# Altium schematic symbol library ic-power-supply.SchLib: 32 symbols
Pins are listed as number, name and electrical type; pins without a type are passive.

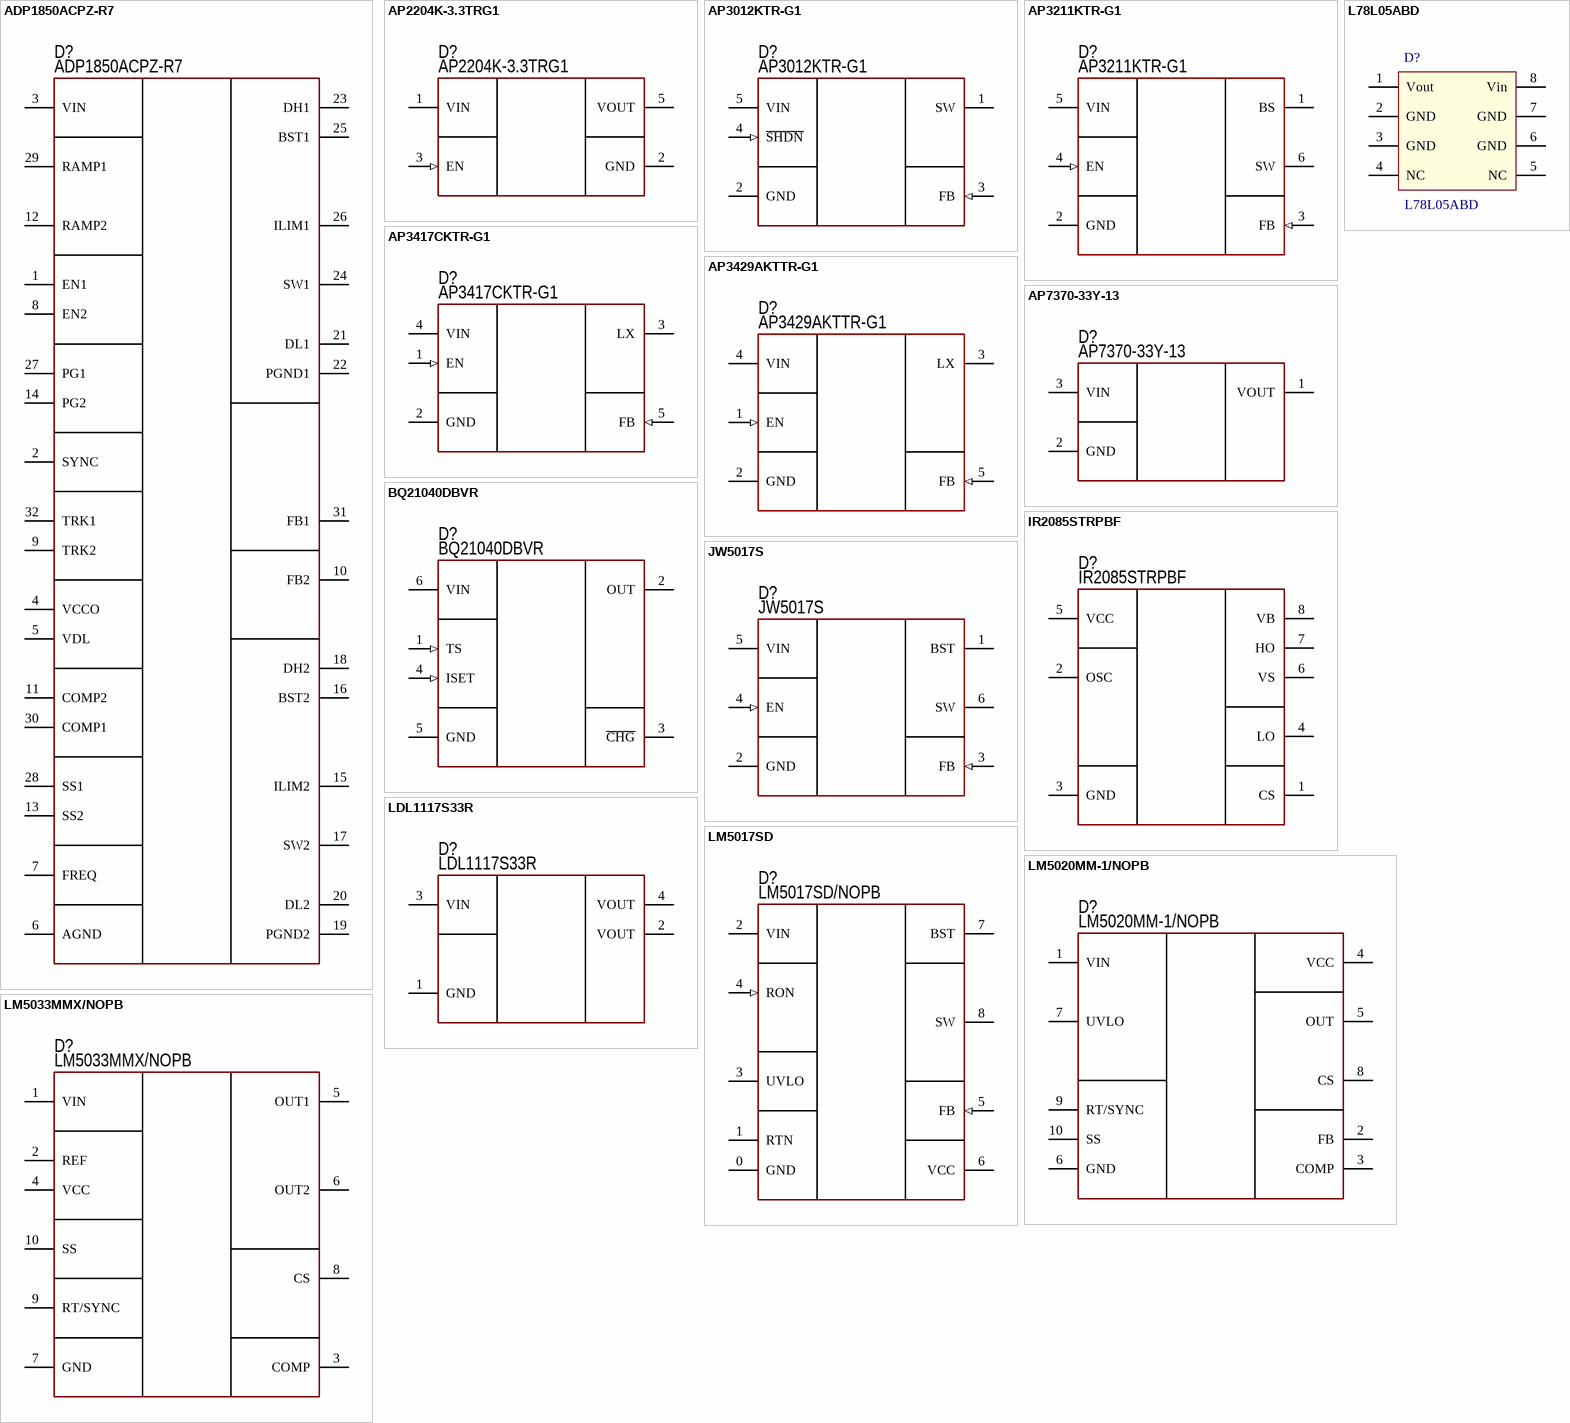
[diagram p0: symbols ADP1850ACPZ-R7 to LM5033MMX/NOPB]

## ADP1850ACPZ-R7
designator D?  PartNumber: ADP1850ACPZ-R7
2 phase buck; Manufacturer: Analog Devices; ValueManufacturerPartNumber: DC/DC buck converter, input 2.75...20V, 200...1500 kHz, output 0.6...17V, 2 phase, -40...+85°C, 32-VFQFN (5x5); VoltageInput: input 2.75...20V; Frequency: 200...1500 kHz; CurrentOutput: 2 phase; VoltageOutput: output 0.6...17V; HelpURL: https://www.digikey.com/product-detail/en/analog-devices-inc/ADP1850ACPZ-R7/ADP1850ACPZ-R7CT-ND/2609853; Package: 32-VFQFN (5x5); ComponentType: DC/DC buck converter; Temperature: -40...+85°C
footprint 32-QFN (5x5 mm, pitch 0.5 mm, power pad)
pins: 1 EN1, 2 SYNC, 3 VIN, 4 VCCO, 5 VDL, 6 AGND, 7 FREQ, 8 EN2, 9 TRK2, 10 FB2, 11 COMP2, 12 RAMP2, 13 SS2, 14 PG2, 15 ILIM2, 16 BST2, 17 SW2, 18 DH2, 19 PGND2, 20 DL2, 21 DL1, 22 PGND1, 23 DH1, 24 SW1, 25 BST1, 26 ILIM1, 27 PG1, 28 SS1, 29 RAMP1, 30 COMP1, 31 FB1, 32 TRK1

## AP2204K-3.3TRG1
designator D?  PartNumber: AP2204K-3.3TRG1
Linear voltage regulator; Manufacturer: Diodes Incorporated; ValueManufacturerPartNumber: Linear voltage regulator, input 4...24V, 0.5V, output 3.3V, 0.15A, -40...+85°C, SOT23-6; VoltageInput: input 4...24V; MaxDropout: 0.5V; CurrentOutput: 0.15A; VoltageOutput: output 3.3V; HelpURL: https://www.digikey.com/product-detail/en/diodes-incorporated/AP2204K-3.3TRG1/AP2204K-3.3TRG1DICT-ND/4505288; Package: SOT23-6; ComponentType: Linear voltage regulator; Temperature: -40...+85°C
footprint SOT23-5 (pitch 0.95 mm)
pins: 1 VIN, 2 GND, 3 EN (in), 5 VOUT

## AP3012KTR-G1
designator D?  PartNumber: AP3012KTR-G1
Boost converter; Manufacturer: Diodes Incorporated; ValueManufacturerPartNumber: DC/DC boost converter, input 2.6...16V, 1.5MHz, output 3...29V, 0.5A, -40...+85°C, SOT23-5; VoltageInput: input 2.6...16V; Frequency: 1.5MHz; CurrentOutput: 0.5A; VoltageOutput: output 3...29V; HelpURL: https://www.digikey.com/product-detail/en/diodes-incorporated/AP3012KTR-G1/AP3012KTR-G1DICT-ND/4505297; Package: SOT23-5; ComponentType: DC/DC boost converter; Temperature: -40...+85°C
footprint SOT23-5 (pitch 0.95 mm)
pins: 1 SW, 2 GND, 3 FB (in), 4 ~{SHDN} (in), 5 VIN

## AP3211KTR-G1
designator D?  PartNumber: AP3211KTR-G1
Buck converter; Manufacturer: Diodes Incorporated; ValueManufacturerPartNumber: DC/DC buck converter, input 4.5...18V, 1.4MHz, output 0.81...15V, 1.5A, -40...+85°C, SOT23-6; VoltageInput: input 4.5...18V; Frequency: 1.4MHz; CurrentOutput: 1.5A; VoltageOutput: output 0.81...15V; HelpURL: https://www.digikey.com/product-detail/en/diodes-incorporated/AP3211KTR-G1/AP3211KTR-G1DICT-ND/4505305; Package: SOT23-6; ComponentType: DC/DC buck converter; Temperature: -40...+85°C
footprint SOT23-6 (pitch 0.95 mm)
pins: 1 BS, 2 GND, 3 FB (in), 4 EN (in), 5 VIN, 6 SW

## AP3417CKTR-G1
designator D?  PartNumber: AP3417CKTR-G1
Buck converter; Manufacturer: Diodes Incorporated; ValueManufacturerPartNumber: DC/DC buck converter, input 2.5...5.5V, 1.5MHz, output 0.6...4.95V, 1A, -40...+85°C, SOT23-5; VoltageInput: input 2.5...5.5V; Frequency: 1.5MHz; CurrentOutput: 1A; VoltageOutput: output 0.6...4.95V; HelpURL: https://www.digikey.com/product-detail/en/diodes-incorporated/AP3417CKTR-G1/AP3417CKTR-G1DICT-ND/4505308; Package: SOT23-5; ComponentType: DC/DC buck converter; Temperature: -40...+85°C
footprint SOT23-6 (pitch 0.95 mm)
pins: 1 EN (in), 2 GND, 3 LX, 4 VIN, 5 FB (in)

## AP3429AKTTR-G1
designator D?  PartNumber: AP3429AKTTR-G1
Buck converter; Manufacturer: Diodes Incorporated; ValueManufacturerPartNumber: DC/DC buck converter, input 2.7...5.5V, 1MHz, output 0.6...5V, 2A, -40...+85°C, SOT23-6; VoltageInput: input 2.7...5.5V; Frequency: 1MHz; CurrentOutput: 2A; VoltageOutput: output 0.6...5V; HelpURL: https://www.digikey.com/product-detail/en/diodes-incorporated/AP3429AKTTR-G1/AP3429AKTTR-G1DICT-ND/5359842; Package: SOT23-6; ComponentType: DC/DC buck converter; Temperature: -40...+85°C
footprint SOT23-6 (pitch 0.95 mm)
pins: 1 EN (in), 2 GND, 3 LX, 4 VIN, 5 FB (in)

## AP7370-33Y-13
designator D?  PartNumber: AP7370-33Y-13
Linear voltage regulator; Manufacturer: Diodes; ValueManufacturerPartNumber: Linear voltage regulator, max input 18V, 0.6V, output 3.3V, 300mA, -40...+125°C, SOT-89; VoltageInput: max input 18V; MaxDropout: 0.6V; CurrentOutput: 300mA; VoltageOutput: output 3.3V; HelpURL: https://www.digikey.com/product-detail/en/diodes-incorporated/AP7370-33Y-13/AP7370-33Y-13DICT-ND/10235832; Package: SOT-89; ComponentType: Linear voltage regulator; Temperature: -40...+125°C
footprint SOT89
pins: 1 VOUT (power), 2 GND (power), 3 VIN (power)

## BQ21040DBVR
designator D?  PartNumber: BQ21040DBVR
Charger; Manufacturer: Texas Instruments; ValueManufacturerPartNumber: Charger li-ion battery, input 4.5...6.25V, output 4.2V, 0.8A, 0...+125°C, SOT23-6; VoltageInput: input 4.5...6.25V; CurrentOutput: 0.8A; VoltageOutput: output 4.2V; HelpURL: https://www.digikey.com/product-detail/en/texas-instruments/BQ21040DBVR/296-47315-1-ND/7688325; Package: SOT23-6; ComponentType: Charger li-ion battery; Temperature: 0...+125°C
footprint SOT23-6 (pitch 0.95 mm)
pins: 1 TS (in), 2 OUT, 3 ~{CHG}, 4 ISET (in), 5 GND, 6 VIN

## IR2085STRPBF
designator D?  PartNumber: IR2085STRPBF
PWM controller; Manufacturer: Infineon; ValueManufacturerPartNumber: PWM half-bridge controller, supply 10...15V, up to 500kHz, bootstrap 100V, -40...+105°C, 8-SOIC; VoltageInput: supply 10...15V; Frequency: up to 500kHz; OutputType: bootstrap 100V; HelpURL: https://www.digikey.com/product-detail/en/infineon-technologies/IR2085STRPBF/IR2085STRPBFCT-ND/812612; Package: 8-SOIC; ComponentType: PWM half-bridge controller; Temperature: -40...+105°C
footprint 8-SOIC (pitch 1.27 mm)
pins: 1 CS, 2 OSC, 3 GND, 4 LO, 5 VCC, 6 VS, 7 HO, 8 VB

## JW5017S
designator D?  PartNumber: JW5017S
Buck converter; Manufacturer: JoulWatt; ValueManufacturerPartNumber: DC/DC buck converter, input 4.5...26V, 1.2MHz, output 0.8...24V, 1.2A, -40...+85°C, SOT23-6; VoltageInput: input 4.5...26V; Frequency: 1.2MHz; CurrentOutput: 1.2A; VoltageOutput: output 0.8...24V; HelpURL: https://lcsc.com/product-detail/DC-DC-Converters_JoulWatt-Tech-JW5017S_C371172.html; Package: SOT23-6; ComponentType: DC/DC buck converter; Temperature: -40...+85°C
footprint SOT23-6 (pitch 0.95 mm)
pins: 1 BST, 2 GND, 3 FB (in), 4 EN (in), 5 VIN, 6 SW

## L78L05ABD
designator D?
footprint 8-SOIC (pitch 1.27 mm)
pins: 1 Vout, 2 GND, 3 GND, 4 NC, 5 NC, 6 GND, 7 GND, 8 Vin

## LDL1117S33R
designator D?  PartNumber: LDL1117S33R
Linear voltage regulator; Manufacturer: STMicroelectronics; ValueManufacturerPartNumber: Linear voltage regulator, input 3.9...18V, 0.6V, output 3.3V, 1.2A, -40...+85°C, SOT223; VoltageInput: input 3.9...18V; MaxDropout: 0.6V; CurrentOutput: 1.2A; VoltageOutput: output 3.3V; HelpURL: https://www.digikey.com/product-detail/en/stmicroelectronics/LDL1117S33R/497-17239-1-ND/7102079; Package: SOT223; ComponentType: Linear voltage regulator; Temperature: -40...+85°C
footprint SOT223 (SOT223, 4-Leads, Body 6,50x7,00mm (avg), Pitch 2,30mm, IPC Medium Density)
pins: 1 GND (power), 2 VOUT (power), 3 VIN (power), 4 VOUT (power)

## LM5017SD
designator D?  PartNumber: LM5017SD/NOPB
Buck converter; Manufacturer: Texas Instruments; ValueManufacturerPartNumber: DC/DC buck converter, input 7.5...100V, 1MHz, output 1.225...90V, 0.6A, -40...+125°C, 8-WSON; VoltageInput: input 7.5...100V; Frequency: 1MHz; CurrentOutput: 0.6A; VoltageOutput: output 1.225...90V; HelpURL: https://www.digikey.com/product-detail/en/texas-instruments/LM5017SD-NOPB/LM5017SD-NOPBCT-ND/3137455; Package: 8-WSON; ComponentType: DC/DC buck converter; Temperature: -40...+125°C
footprint 8-WSON (4x4) (4x4 mm, pitch 0.8 mm, power pad)
pins: 0 GND, 1 RTN, 2 VIN, 3 UVLO, 4 RON (in), 5 FB (in), 6 VCC, 7 BST, 8 SW

## LM5020MM-1/NOPB
designator D?  PartNumber: LM5020MM-1/NOPB
PWM controller; Manufacturer: Texas Instruments; ValueManufacturerPartNumber: PWM controller, supply 13...90V, 1MHz, External switch, -40...+105°C, 10-VSSOP; VoltageInput: supply 13...90V; Frequency: 1MHz; OutputType: External switch; HelpURL: https://www.digikey.com/product-detail/en/texas-instruments/LM5020MM-1-NOPB/LM5020MM-1-NOPBCT-ND/665721; Package: 10-VSSOP; ComponentType: PWM controller; Temperature: -40...+105°C
footprint 10-MSOP (3x3 mm, pitch 0.5 mm)
pins: 1 VIN, 2 FB, 3 COMP, 4 VCC, 5 OUT, 6 GND, 7 UVLO, 8 CS, 9 RT/SYNC, 10 SS

## LM5033MMX/NOPB
designator D?  PartNumber: LM5033MMX/NOPB
PWM controller; Manufacturer: Texas Instruments; ValueManufacturerPartNumber: PWM controller, supply 15...90V, 200/600 kHz, External switch, -40...+125°C, 10-MSOP; VoltageInput: supply 15...90V; Frequency: 200/600 kHz; OutputType: External switch; HelpURL: https://www.digikey.com/product-detail/en/texas-instruments/LM5033MMX-NOPB/296-35293-1-ND/3739001; Package: 10-MSOP; ComponentType: PWM controller; Temperature: -40...+125°C
footprint 10-MSOP (3x3 mm, pitch 0.5 mm)
pins: 1 VIN, 2 REF, 3 COMP, 4 VCC, 5 OUT1, 6 OUT2, 7 GND, 8 CS, 9 RT/SYNC, 10 SS

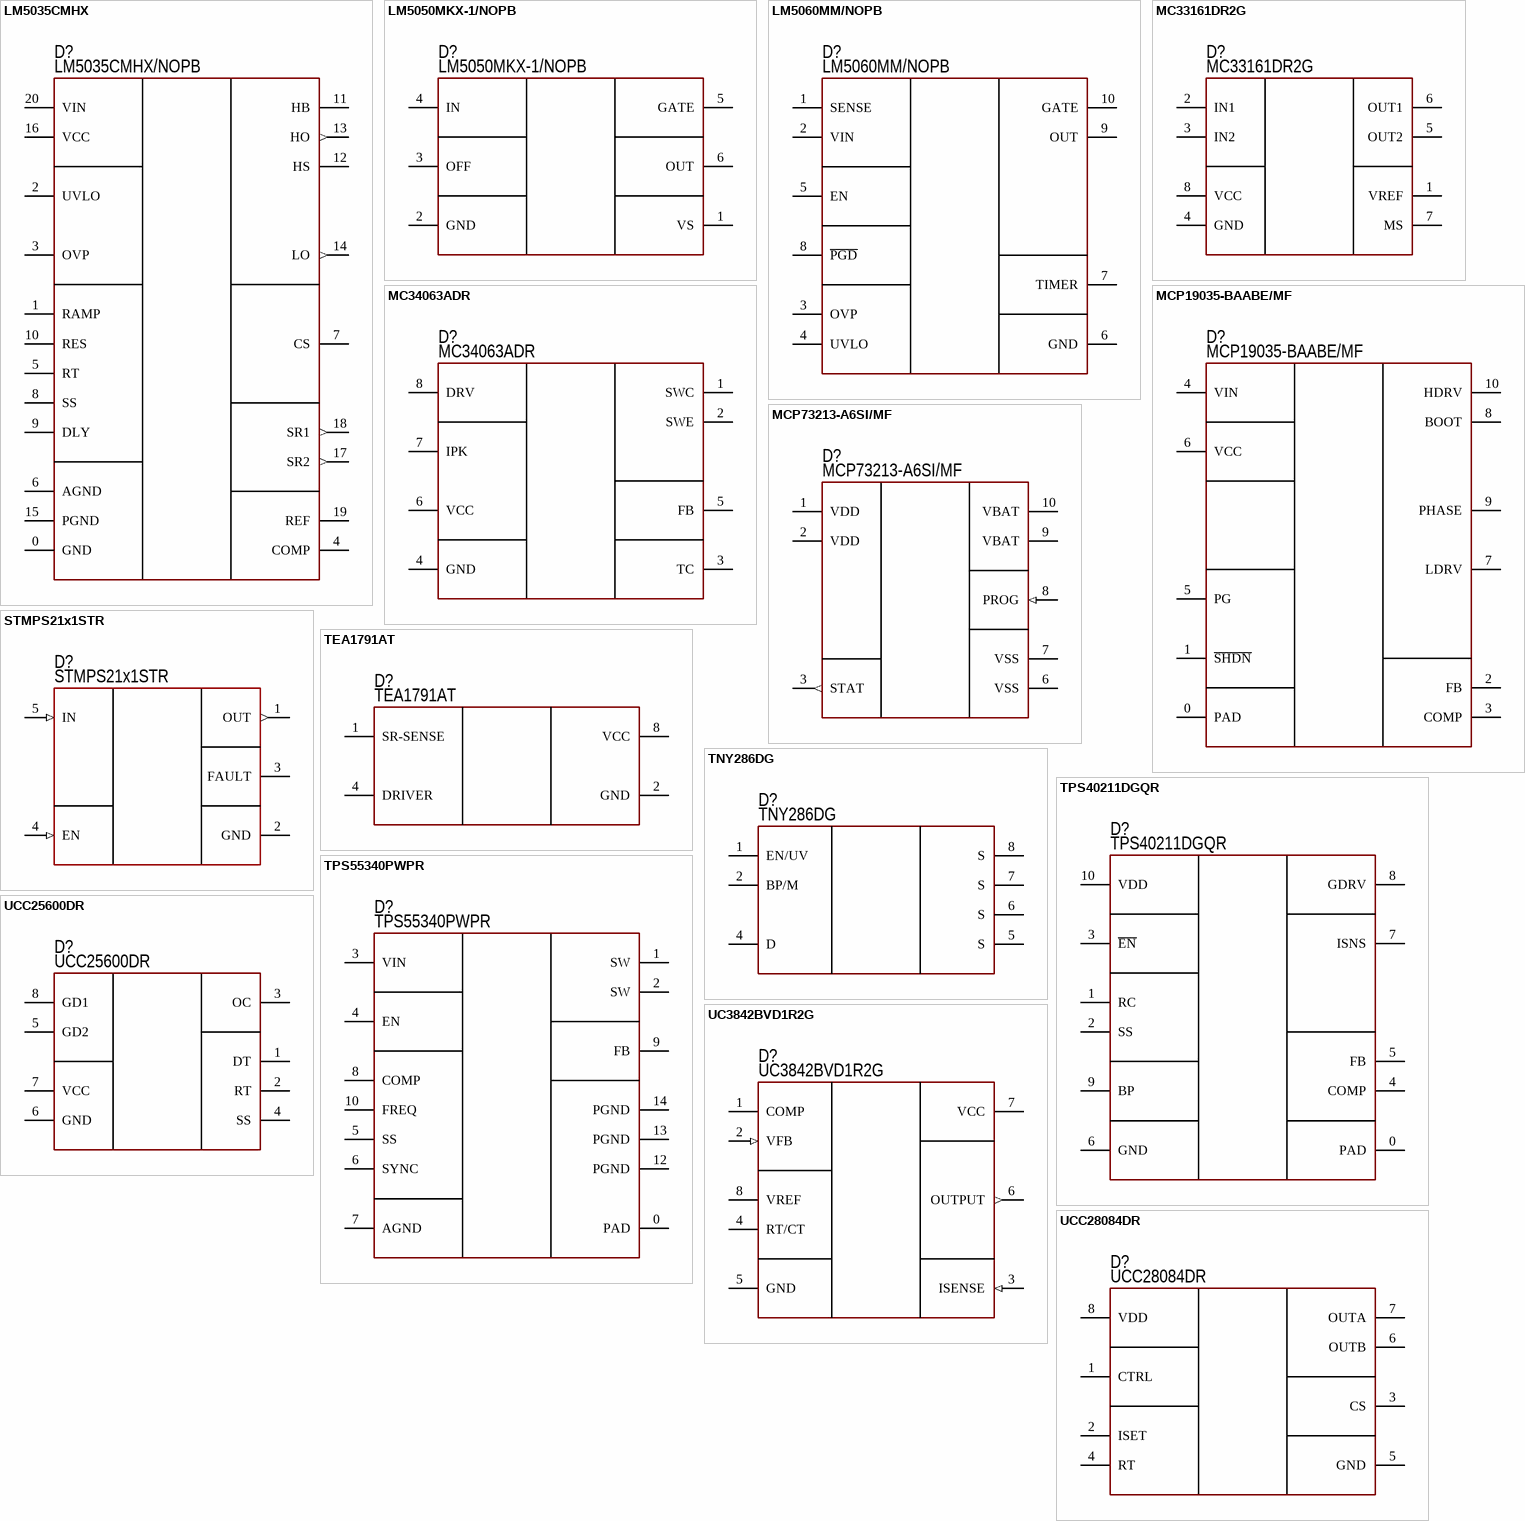
[diagram p1: symbols LM5035CMHX to UCC28084DR]

## LM5035CMHX
designator D?  PartNumber: LM5035CMHX/NOPB
PWM controller; Manufacturer: Texas Instruments; ValueManufacturerPartNumber: PWM controller half bridge, supply 13...105V, 2 MHz, Internal driver, -40...+125°C, 20-PowerTSSOP; VoltageInput: supply 13...105V; Frequency: 2 MHz; OutputType: Internal driver; HelpURL: https://www.digikey.com/product-detail/en/texas-instruments/LM5035CMHX-NOPB/296-45545-1-ND/6823175; Package: 20-PowerTSSOP; ComponentType: PWM controller half bridge; Temperature: -40...+125°C
footprint 20-TSSOP-PAD (pitch 0.65 mm, power pad)
pins: 0 GND, 1 RAMP, 2 UVLO, 3 OVP, 4 COMP, 5 RT, 6 AGND, 7 CS, 8 SS, 9 DLY, 10 RES, 11 HB, 12 HS, 13 HO (out), 14 LO (out), 15 PGND, 16 VCC, 17 SR2 (out), 18 SR1 (out), 19 REF, 20 VIN

## LM5050MKX-1/NOPB
designator D?  PartNumber: LM5050MKX-1/NOPB
Ideal diode; Manufacturer: Texas Instruments; ValueManufacturerPartNumber: Ideal diode, input 5...75V, 486ns, supply 130 µA, 2A peak gate, -40...+125°C, SOT23-6; VoltageInput: input 5...75V; Frequency: 486ns; CurrentOutput: 2A peak gate; VoltageOutput: supply 130 µA; HelpURL: https://www.digikey.com/product-detail/en/texas-instruments/LM5050MKX-1-NOPB/296-46427-1-ND/7033600; Package: SOT23-6; ComponentType: Ideal diode; Temperature: -40...+125°C
footprint SOT23-6 (pitch 0.95 mm)
pins: 1 VS, 2 GND, 3 OFF, 4 IN, 5 GATE, 6 OUT

## LM5060MM/NOPB
designator D?  PartNumber: LM5060MM/NOPB
PWM controller; Manufacturer: Texas Instruments; ValueManufacturerPartNumber: IC power managment, supply 5.5...65V, N-channel, External switch, -40...+125°C, 10-MSOP; VoltageInput: supply 5.5...65V; TypeController: N-channel; OutputType: External switch; HelpURL: https://www.digikey.com/product-detail/en/texas-instruments/LM5060MM-NOPB/296-39024-1-ND/5143071; Package: 10-MSOP; ComponentType: IC power managment; Temperature: -40...+125°C
footprint 10-TSSOP (3x3 mm, pitch 0.5 mm)
pins: 1 SENSE, 2 VIN, 3 OVP, 4 UVLO, 5 EN, 6 GND, 7 TIMER, 8 ~{PGD}, 9 OUT, 10 GATE

## MC33161DR2G
designator D?  PartNumber: MC33161DR2G
Supervisor; Manufacturer: ON Semiconductor; ValueManufacturerPartNumber: Multi-voltage supervisor, max supply 40V, Open drain, -40...+105°C, 8-SOIC; VoltageInput: max supply 40V; OutputType: Open drain; HelpURL: https://www.digikey.com/product-detail/en/on-semiconductor/MC33161DR2G/MC33161DR2GOSCT-ND/1139692; Package: 8-SOIC; ComponentType: Multi-voltage supervisor; Temperature: -40...+105°C
footprint 8-SOIC (pitch 1.27 mm)
pins: 1 VREF, 2 IN1, 3 IN2, 4 GND, 5 OUT2, 6 OUT1, 7 MS, 8 VCC

## MC34063ADR
designator D?  PartNumber: MC34063ADR
Buck and boost converter; Manufacturer: Texas Instruments; ValueManufacturerPartNumber: DC/DC converter, input 3...40V, 100 kHz, min output 1.25V, 1.5A, -40...+85°C, 8-SOIC; VoltageInput: input 3...40V; Frequency: 100 kHz; CurrentOutput: 1.5A; VoltageOutput: min output 1.25V; HelpURL: https://www.digikey.com/product-detail/en/texas-instruments/MC34063ADR/296-17765-1-ND/717456; Package: 8-SOIC; ComponentType: DC/DC converter; Temperature: -40...+85°C
footprint 8-SOIC (pitch 1.27 mm)
pins: 1 SWC, 2 SWE, 3 TC, 4 GND, 5 FB, 6 VCC, 7 IPK, 8 DRV

## MCP19035-BAABE/MF
designator D?  PartNumber: MCP19035-BAABE/MF
Buck controller; Manufacturer: Microchip; ValueManufacturerPartNumber: DC/DC buck controller, input 4.5...30V, 300/600 kHz, output 0.6...25V, 2 phase, -40...+125°C, 10-DFN (3x3); VoltageInput: input 4.5...30V; Frequency: 300/600 kHz; CurrentOutput: 2 phase; VoltageOutput: output 0.6...25V; HelpURL: https://www.digikey.com/product-detail/en/microchip-technology/MCP19035-BAABE-MF/MCP19035-BAABE-MF-ND/4079920; Package: 10-DFN (3x3); ComponentType: DC/DC buck controller; Temperature: -40...+125°C
footprint 10-DFN (3x3 mm, pitch 0.5 mm, power pad)
pins: 0 PAD, 1 ~{SHDN}, 2 FB, 3 COMP, 4 VIN, 5 PG, 6 VCC, 7 LDRV, 8 BOOT, 9 PHASE, 10 HDRV

## MCP73213-A6SI/MF
designator D?  PartNumber: MCP73213-A6SI/MF
Charger; Manufacturer: Microchip Technology; ValueManufacturerPartNumber: Charger  2S li-ion battery, input 8.8...13V, output 8.4V, 1.1A, -40...+85°C, 10-DFN; VoltageInput: input 8.8...13V; CurrentOutput: 1.1A; VoltageOutput: output 8.4V; HelpURL: https://www.digikey.com/products/en?keywords=MCP73213-A6SI%2FMF; Package: 10-DFN; ComponentType: Charger  2S li-ion battery; Temperature: -40...+85°C
footprint 10-DFN (3x3 mm, pitch 0.5 mm, power pad)
pins: 1 VDD, 2 VDD, 3 STAT (out), 6 VSS, 7 VSS, 8 PROG (in), 9 VBAT, 10 VBAT

## STMPS21x1STR
designator D?  PartNumber: STMPS21x1STR
Single channel power switche; Manufacturer: STMicroelectronics; Voltage: 5.5V; CurrentOutput: 500/1000 mA; HelpURL: https://www.st.com/content/st_com/en/products/switches-and-multiplexers/power-load-switches/stmps2151.html; Package: SOT23-5; ComponentType: Enhanced single channel power switche; ValueManufacturerPartNumber: =ComponentType+', '+VoltageInput+', '+Frequency+', '+VoltageOutput+', '+CurrentOutput+', '+Temperature+', '+Package; Temperature: -40...+85°C; Supplier 1: Digi-Key; Supplier Part Number 1: 497-6934-1-ND
footprint SOT23-5 (pitch 0.95 mm)
pins: 1 OUT (out), 2 GND, 3 FAULT, 4 EN (in), 5 IN (in)

## TEA1791AT
designator D?  PartNumber: TEA1791AT
Synchronous rectification; Manufacturer: NXP; ValueManufacturerPartNumber: Synchronous rectification, input 8.5...38V, 1MHz, ExternalSwitch, Controller, -40...+150°C, 8-SOIC; VoltageInput: input 8.5...38V; Frequency: 1MHz; TypeConverter: Controller; OutputType: ExternalSwitch; HelpURL: https://www.digikey.com/product-detail/en/nxp-usa-inc/TEA1791AT-N1118/568-5964-1-ND/2531251; Package: 8-SOIC; ComponentType: Synchronous rectification; Temperature: -40...+150°C
footprint 8-SOIC (pitch 1.27 mm)
pins: 1 SR-SENSE, 2 GND, 4 DRIVER, 8 VCC

## TNY286DG
designator D?  PartNumber: TNY286DG
AC/DC converter; Manufacturer: Power Integrations; ValueManufacturerPartNumber: AC/DC flyback converter, 725V, 124...140kHz, 13W, supply 6.8...25V, -40...+150°C, 8-SOIC; MaxInternalVoltage: 725V; Frequency: 124...140kHz; PowerOutput: 13W; VoltageSupply: supply 6.8...25V; HelpURL: https://www.digikey.com/product-detail/en/power-integrations/TNY286DG/596-1581-ND/4171962; Package: 8-SOIC; ComponentType: AC/DC flyback converter; Temperature: -40...+150°C
footprint IC: TNY286DG
pins: 1 EN/UV, 2 BP/M, 4 D, 5 S, 6 S, 7 S, 8 S

## TPS40211DGQR
designator D?  PartNumber: TPS40211DGQR
Boost controller; Manufacturer: Texas Instruments; ValueManufacturerPartNumber: DC/DC boost controller, input 4.5...52V, 35...1500 kHz, output max 52V, PWM output, -40...+85°C, 10-MSOP; VoltageInput: input 4.5...52V; Frequency: 35...1500 kHz; CurrentOutput: PWM output; VoltageOutput: output max 52V; HelpURL: https://www.digikey.com/product-detail/en/texas-instruments/TPS40211DGQR/296-39398-1-ND/5143349; Package: 10-MSOP; ComponentType: DC/DC boost controller; Temperature: -40...+85°C
footprint 10-MSOP-PAD (3x3 mm, pitch 0.5 mm)
pins: 0 PAD, 1 RC, 2 SS, 3 ~{EN}, 4 COMP, 5 FB, 6 GND, 7 ISNS, 8 GDRV, 9 BP, 10 VDD

## TPS55340PWPR
designator D?  PartNumber: TPS55340PWPR
Boost converter; Manufacturer: Texas Instruments; ValueManufacturerPartNumber: DC/DC boost converter, input 2.9...32V, 94...1140 kHz, max output 38V, 2A, -40...+125°C, 14-HTSSOP; VoltageInput: input 2.9...32V; Frequency: 94...1140 kHz; CurrentOutput: 2A; VoltageOutput: max output 38V; HelpURL: https://www.digikey.com/product-detail/en/texas-instruments/TPS55340PWPR/296-39426-1-ND/5143375; Package: 14-HTSSOP; ComponentType: DC/DC boost converter; Temperature: -40...+125°C
footprint 14-TSOP-PAD (pitch 0.65 mm, power pad)
pins: 0 PAD, 1 SW, 2 SW, 3 VIN, 4 EN, 5 SS, 6 SYNC, 7 AGND, 8 COMP, 9 FB, 10 FREQ, 12 PGND, 13 PGND, 14 PGND

## UC3842BVD1R2G
designator D?  PartNumber: UC3842BVD1R2G
PWM controller; Manufacturer: ON Semiconductor; ValueManufacturerPartNumber: PWM controller, supply 10...30V, 500kHz, External switch, -40...+105°C, 8-SOIC; VoltageInput: supply 10...30V; Frequency: 500kHz; OutputType: External switch; HelpURL: https://www.digikey.com/product-detail/en/on-semiconductor/UC3842BVD1R2G/UC3842BVD1R2GOSCT-ND/5802572; Package: 8-SOIC; ComponentType: PWM controller; Temperature: -40...+105°C
footprint 8-SOIC (pitch 1.27 mm)
pins: 1 COMP, 2 VFB (in), 3 ISENSE (in), 4 RT/CT, 5 GND, 6 OUTPUT (out), 7 VCC, 8 VREF

## UCC25600DR
designator D?  PartNumber: UCC25600DR
PWM controller; Manufacturer: Texas Instruments; ValueManufacturerPartNumber: PWM LLC controller, supply 11.5...18V, 350kHz, External switch, -40...+85°C, 8-SOIC; VoltageInput: supply 11.5...18V; Frequency: 350kHz; OutputType: External switch; HelpURL: https://www.digikey.com/product-detail/en/texas-instruments/UCC25600DR/296-38315-1-ND/4967520; Package: 8-SOIC; ComponentType: PWM LLC controller; Temperature: -40...+85°C
footprint 8-SOIC (pitch 1.27 mm)
pins: 1 DT, 2 RT, 3 OC, 4 SS, 5 GD2, 6 GND, 7 VCC, 8 GD1

## UCC28084DR
designator D?  PartNumber: UCC28084DR
PWM controller; Manufacturer: Texas Instruments; ValueManufacturerPartNumber: PWM controller, supply 4.1...15V, 200kHz, External switch, -40...+85°C, 8-SOIC; VoltageInput: supply 4.1...15V; Frequency: 200kHz; OutputType: External switch; HelpURL: https://www.digikey.com/product-detail/en/texas-instruments/UCC28084DR/296-39532-1-ND/5143475; Package: 8-SOIC; ComponentType: PWM controller; Temperature: -40...+85°C
footprint 8-SOIC (pitch 1.27 mm)
pins: 1 CTRL, 2 ISET, 3 CS, 4 RT, 5 GND, 6 OUTB, 7 OUTA, 8 VDD

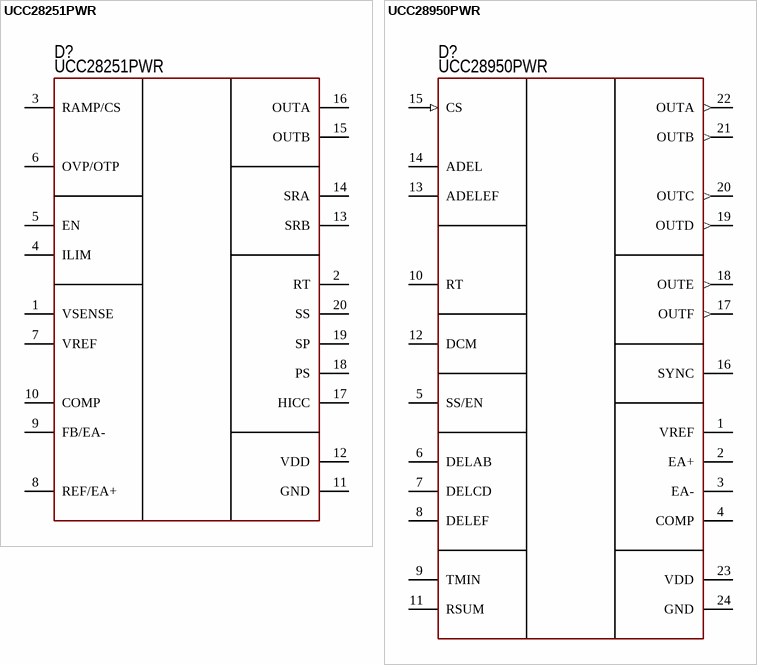
[diagram p2: symbols UCC28251PWR to UCC28950PWR]

## UCC28251PWR
designator D?  PartNumber: UCC28251PWR
PWM controller; Manufacturer: Texas Instruments; ValueManufacturerPartNumber: PWM controller, supply 4.7...17V, 42...945 kHz, PWM signal, -40...+125°C, 20-PowerTSSOP; VoltageInput: supply 4.7...17V; Frequency: 42...945 kHz; OutputType: PWM signal; HelpURL: https://www.digikey.com/product-detail/en/texas-instruments/UCC28251PWR/296-41053-1-ND/5178930; Package: 20-PowerTSSOP; ComponentType: PWM controller; Temperature: -40...+125°C
footprint 20-TSSOP (pitch 0.65 mm)
pins: 1 VSENSE, 2 RT, 3 RAMP/CS, 4 ILIM, 5 EN, 6 OVP/OTP, 7 VREF, 8 REF/EA+, 9 FB/EA-, 10 COMP, 11 GND, 12 VDD, 13 SRB, 14 SRA, 15 OUTB, 16 OUTA, 17 HICC, 18 PS, 19 SP, 20 SS

## UCC28950PWR
designator D?  PartNumber: UCC28950PWR
PWM controller; Manufacturer: Texas Instruments; ValueManufacturerPartNumber: PWM controller, supply 8...17V, 50...1000 kHz, PWM signal, -40...+125°C, 24-TSSOP; VoltageInput: supply 8...17V; Frequency: 50...1000 kHz; OutputType: PWM signal; HelpURL: https://www.digikey.com/product-detail/en/texas-instruments/UCC28950PWR/296-25884-1-ND/2241914; Package: 24-TSSOP; ComponentType: PWM controller; Temperature: -40...+125°C
footprint 24-TSSOP (pitch 0.65 mm)
pins: 1 VREF, 2 EA+, 3 EA-, 4 COMP, 5 SS/EN, 6 DELAB, 7 DELCD, 8 DELEF, 9 TMIN, 10 RT, 11 RSUM, 12 DCM, 13 ADELEF, 14 ADEL, 15 CS (in), 16 SYNC, 17 OUTF (out), 18 OUTE (out), 19 OUTD (out), 20 OUTC (out), 21 OUTB (out), 22 OUTA (out), 23 VDD, 24 GND